# Altium footprint library DFN.PcbLib: 1 footprints
Each footprint in its own frame and in the unit in brackets; x right, y up, seen from the top. Pads: shape width x height; smd on the part's side, far side on the other; paste and mask are expansions set on the pad; w line width, h text height; cw(c..) or ccw(c..) is an arc to the next point about the centre after c.
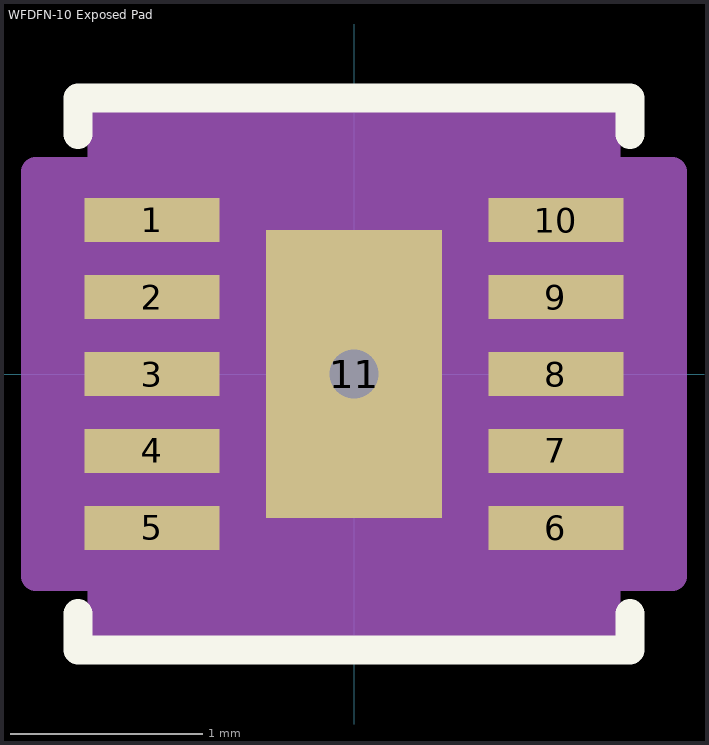
[diagram p0: the footprint, top view; thin cyan lines are the x and y axes]

## WFDFN-10 Exposed Pad [mm]
pads (12):
  rect 0.7x0.23 smd paste-0.115: 1(-1.05,0.8) 2(-1.05,0.4) 3(-1.05,0) 4(-1.05,-0.4) 5(-1.05,-0.8) 6(1.05,-0.8) 7(1.05,-0.4) 8(1.05,0) 9(1.05,0.4) 10(1.05,0.8)
  rect 0.914x1.499 smd paste-0.737 mask-0.737: 11(0,0)
  round 0.508 / inner round 1.524 / far side round 0.508 hole 0.254: 11(0,0)
Top Layer:
  region: 0,-0.749
  region: 0,0.749
Top Overlay:
  lines w0.152: -1.435,-1.246 -1.435,-1.435 1.435,-1.435 1.435,-1.246 ; -1.435,1.246 -1.435,1.435 1.435,1.435 1.435,1.246
Top Paste:
  region: 0.382,-0.1 0.241,-0.1 0.1,-0.241 0.1,-0.674 0.382,-0.674
  region: 0.382,0.674 0.1,0.674 0.1,0.241 0.241,0.1 0.382,0.1
  region: -0.241,-0.1 -0.382,-0.1 -0.382,-0.674 -0.1,-0.674 -0.1,-0.241
  region: -0.1,0.674 -0.382,0.674 -0.382,0.1 -0.241,0.1 -0.1,0.241
  region: 1.399,0.914 0.701,0.914 0.701,0.686 1.399,0.686
  region: 1.399,0.514 0.701,0.514 0.701,0.286 1.399,0.286
  region: 1.399,0.114 0.701,0.114 0.701,-0.114 1.399,-0.114
  region: 1.399,-0.286 0.701,-0.286 0.701,-0.514 1.399,-0.514
  region: 1.399,-0.686 0.701,-0.686 0.701,-0.914 1.399,-0.914
  region: -0.701,-0.686 -1.399,-0.686 -1.399,-0.914 -0.701,-0.914
  region: -0.701,-0.286 -1.399,-0.286 -1.399,-0.514 -0.701,-0.514
  region: -0.701,0.114 -1.399,0.114 -1.399,-0.114 -0.701,-0.114
  region: -0.701,0.514 -1.399,0.514 -1.399,0.286 -0.701,0.286
  region: -0.701,0.914 -1.399,0.914 -1.399,0.686 -0.701,0.686
Top Solder:
  region: 0,-0.749
  region: 0,0.749
  region: 0.2,-0.813 0.2,0.813 0.521,0.813 0.521,-0.813
  region: -0.521,-0.813 -0.521,0.813 -0.2,0.813 -0.2,-0.813
  region: -0.521,-0.813 -0.521,-0.2 0.521,-0.2 0.521,-0.813
  region: -0.521,0.2 -0.521,0.813 0.521,0.813 0.521,0.2
  region: 1.47,0.985 0.63,0.985 0.63,0.615 1.47,0.615
  region: 1.47,0.585 0.63,0.585 0.63,0.215 1.47,0.215
  region: 1.47,0.185 0.63,0.185 0.63,-0.185 1.47,-0.185
  region: 1.47,-0.215 0.63,-0.215 0.63,-0.585 1.47,-0.585
  region: 1.47,-0.615 0.63,-0.615 0.63,-0.985 1.47,-0.985
  region: -0.63,-0.615 -1.47,-0.615 -1.47,-0.985 -0.63,-0.985
  region: -0.63,-0.215 -1.47,-0.215 -1.47,-0.585 -0.63,-0.585
  region: -0.63,0.185 -1.47,0.185 -1.47,-0.185 -0.63,-0.185
  region: -0.63,0.585 -1.47,0.585 -1.47,0.215 -0.63,0.215
  region: -0.63,0.985 -1.47,0.985 -1.47,0.615 -0.63,0.615
Mechanical 13:
  lines w0: -0.305,1.054 ccw(c0,1.054) 0.305,1.054
Mechanical 15:
  region: -1.308,-1.051 -1.654,-1.051 -1.654,1.051 -1.308,1.051 -1.308,1.308 1.308,1.308 1.308,1.051 1.654,1.051 1.654,-1.051 1.308,-1.051 1.308,-1.308 -1.308,-1.308
  lines w0.152: -1.654,-1.051 -1.308,-1.051 -1.308,-1.308 1.308,-1.308 1.308,-1.051 1.654,-1.051 1.654,1.051 1.308,1.051 1.308,1.308 -1.308,1.308 -1.308,1.051 -1.654,1.051 -1.654,-1.051
3D body "DSQ10_P9X1P5.stp": height 0.79, standoff 0, extent -1.105,-1.054 1.105,1.054